# Altium schematic symbol library KM-23ID-F.SchLib: 1 symbol
Pins are listed as number, name and electrical type; pins without a type are passive.

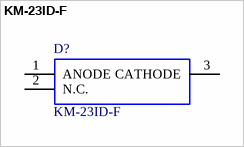
[diagram p0: symbol KM-23ID-F]

## KM-23ID-F
designator D?
Kingbright KM-23ID-F, 625 nm Red LED, 3-Pin SOT-23 SMD package; Manufacturer_Name: Kingbright; Manufacturer_Part_Number: KM-23ID-F; RS Part Number: 4664131P; RS Price/Stock: http://uk.rs-online.com/web/p/products/4664131P; Arrow Part Number: KM-23ID-F; Arrow Price/Stock: http://uk.rs-online.com/web/p/products/4664131P; Datasheet Link: https://componentsearchengine.com/Datasheets/2/KM-23ID-F.pdf
footprint SOT-23
pins: 1 ANODE, 2 N.C., 3 CATHODE